# Altium schematic symbol library Resistors.SchLib: 5 symbols
Pins are listed as number, name and electrical type; pins without a type are passive.

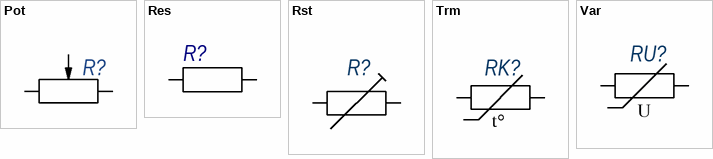
[diagram p0: symbols Pot to Var]

## Pot
designator R?
pins: 1, 2, 3

## Res
designator R?
pins: 1, 2

## Rst
designator R?
pins: 1, 2
1 alternate drawing of the same symbol

## Trm
designator RK?
pins: 1, 2
3 alternate drawings of the same symbol
text: t°

## Var
designator RU?
pins: 1, 2
1 alternate drawing of the same symbol
text: U